# Altium schematic symbol library NX2016SA-32M-EXS00A-CS06465.SchLib: 1 symbol
Pins are listed as number, name and electrical type; pins without a type are passive.

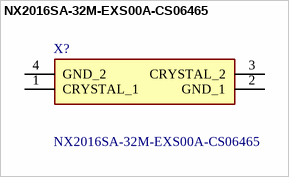
[diagram p0: symbol NX2016SA-32M-EXS00A-CS06465]

## NX2016SA-32M-EXS00A-CS06465
designator X?
CRYSTAL 32MHZ 10PF SMD; Manufacturer_Name: NDK; Geometry.Height: 0.5mm; Mouser Part Number: 344-NX2016SA32S06465; Mouser Price/Stock: https://www.mouser.co.uk/ProductDetail/NDK/NX2016SA-32M-EXS00A-CS06465?qs=w%2Fv1CP2dgqr82b0JjRnv4A%3D%3D; Manufacturer_Part_Number: NX2016SA-32M-EXS00A-CS06465; Datasheet Link: http://www.ndk.com/images/products/catalog/c_NX2016SA_e.pdf
footprint NX2016SA32MEXS00ACS06465
pins: 1 CRYSTAL_1, 2 GND_1, 3 CRYSTAL_2, 4 GND_2